# EAGLE library part FAN7390M1X (library fairchild-semi)
High-Current High & Low Side Gate-Driver
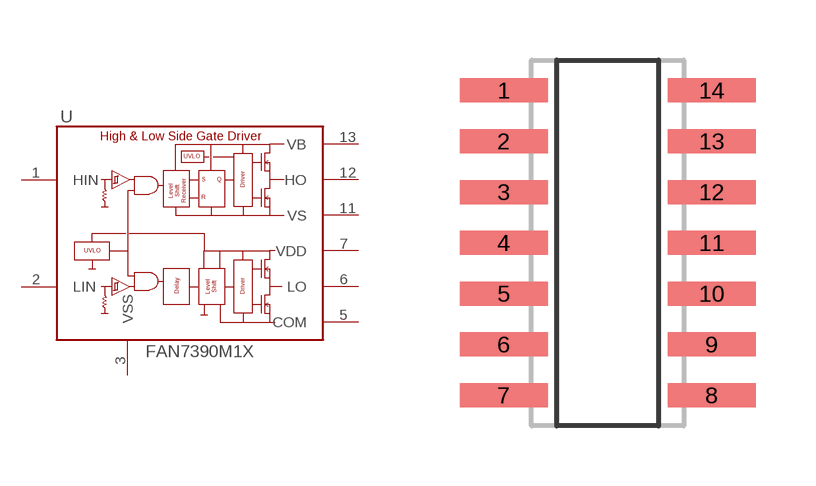
[diagram p1: symbol with the pads of SO14; footprint SO14]

Designator prefix U

## FAN7390M1X (P1I: o)  [SO14]
1  HIN
2  LIN
3  VSS
5  COM
6  LO
7  VDD
11  VS
12  HO
13  VB

## Footprint SO14 (pad centres in mm)
SMALL OUTLINE INTEGRATED CIRCUIT body 3.9 mm/JEDEC MS-012AC
smd 2.2 x 0.6: 1 -2.6,3.81; 2 -2.6,2.54; 3 -2.6,1.27; 4 -2.6,0; 5 -2.6,-1.27; 6 -2.6,-2.54; 7 -2.6,-3.81; 8 2.6,-3.81; 9 2.6,-2.54; 10 2.6,-1.27; 11 2.6,0; 12 2.6,1.27; 13 2.6,2.54; 14 2.6,3.81